# Altium footprint library Resistors.PcbLib: 51 footprints (part 1 of 4)
Each footprint in its own frame and in the unit in brackets; x right, y up, seen from the top. Pads: shape width x height; smd on the part's side, far side on the other; paste and mask are expansions set on the pad; w line width, h text height; cw(c..) or ccw(c..) is an arc to the next point about the centre after c.
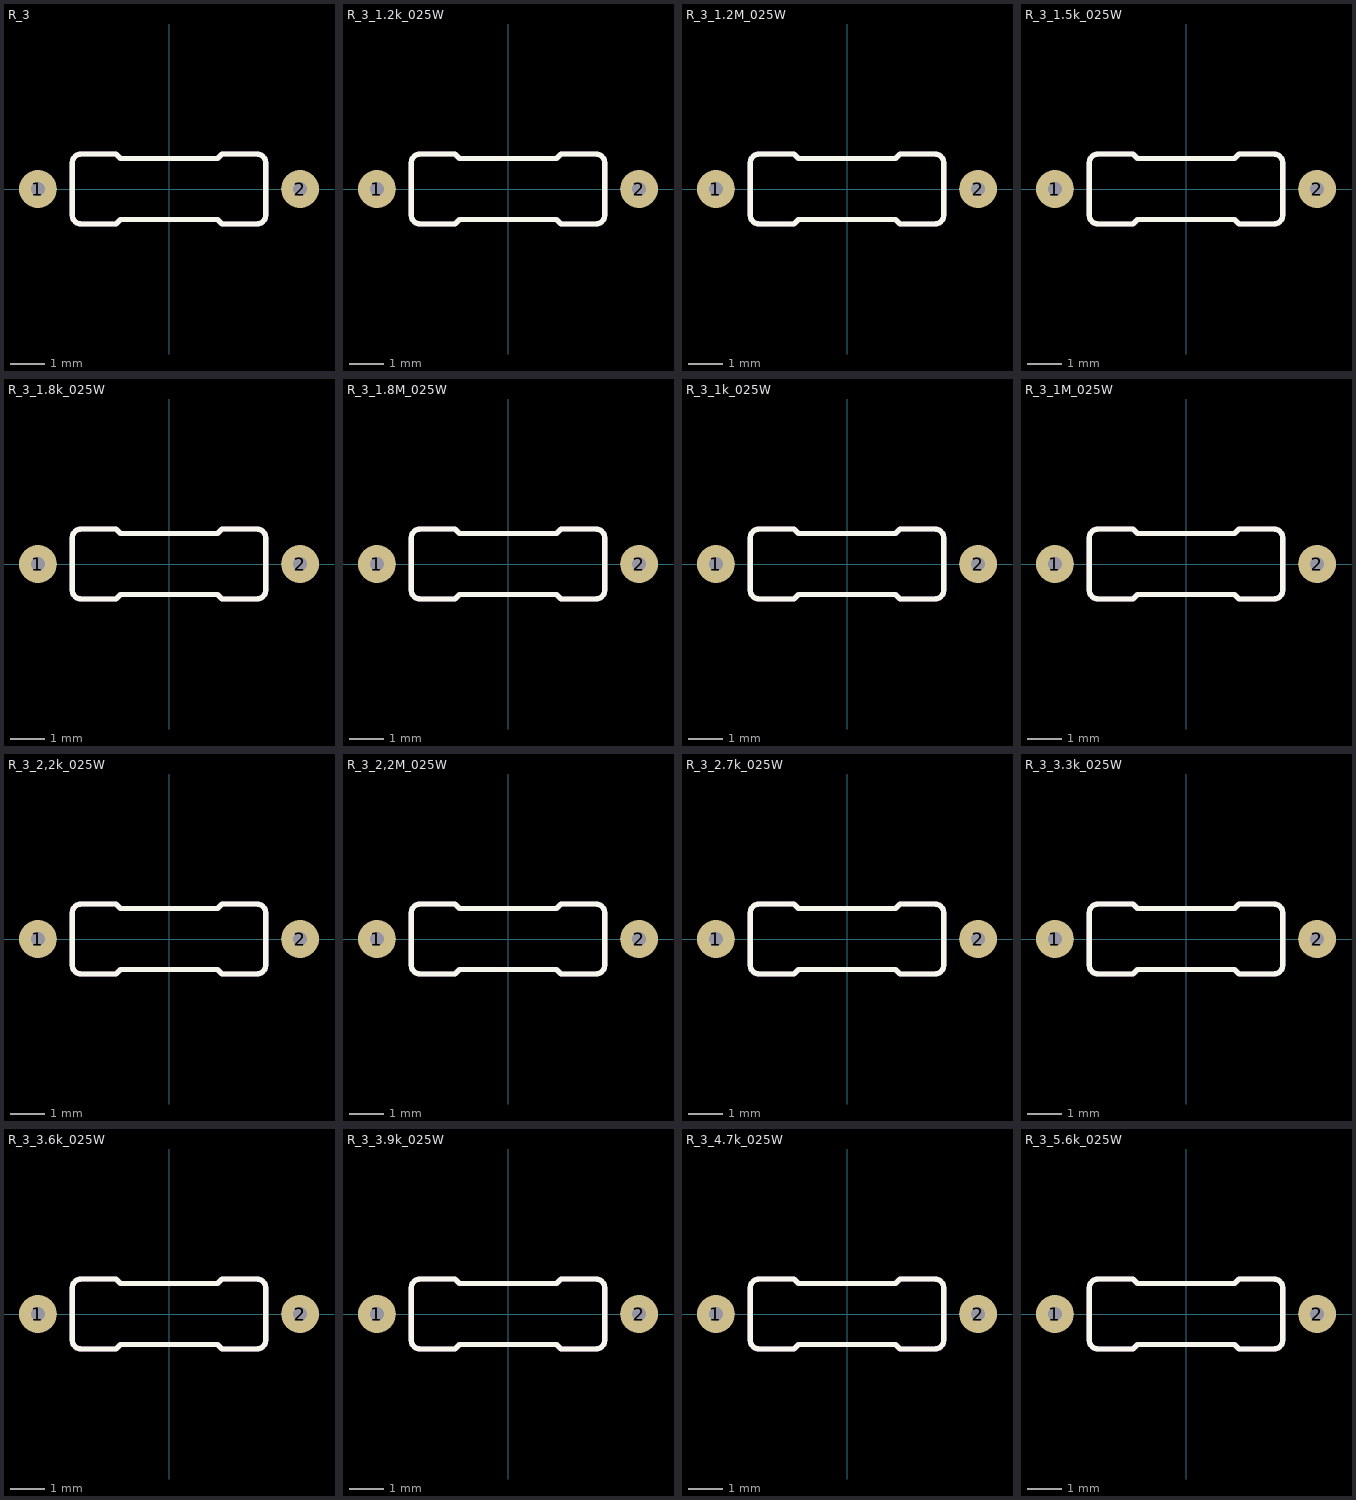
[diagram p0: the footprints below, top view; thin cyan lines are the x and y axes]

## R_3 [mil]
pads (2):
  round 43.31 hole 15.75: 1(-150,0) 2(150,0)
Top Overlay:
  lines w6: -110.63,-30 ccw(c-100.63,-30) -100.63,-40 -60.63,-40 -55.63,-35 55.63,-35 60.63,-40 100.63,-40 ccw(c100.63,-30) 110.63,-30 110.63,30 ccw(c100.63,30) 100.63,40 60.63,40 55.63,35 -55.63,35 -60.63,40 -100.63,40 ccw(c-100.63,30) -110.63,30 -110.63,-30
Mechanical 2:
  lines w6: -110.63,-30 ccw(c-100.63,-30) -100.63,-40 -60.63,-40 -55.63,-35 55.63,-35 60.63,-40 100.63,-40 ccw(c100.63,-30) 110.63,-30 110.63,30 ccw(c100.63,30) 100.63,40 60.63,40 55.63,35 -55.63,35 -60.63,40 -100.63,40 ccw(c-100.63,30) -110.63,30 -110.63,-30
3D body "R_3.STEP": height 78.24, standoff -60, extent -160,-38.23 160,38.25

## R_3_1.2k_025W [mil]
pads (2):
  round 43.31 hole 15.75: 1(-150,0) 2(150,0)
Top Overlay:
  lines w6: -110.63,-30 ccw(c-100.63,-30) -100.63,-40 -60.63,-40 -55.63,-35 55.63,-35 60.63,-40 100.63,-40 ccw(c100.63,-30) 110.63,-30 110.63,30 ccw(c100.63,30) 100.63,40 60.63,40 55.63,35 -55.63,35 -60.63,40 -100.63,40 ccw(c-100.63,30) -110.63,30 -110.63,-30
Mechanical 2:
  lines w6: -110.63,-30 ccw(c-100.63,-30) -100.63,-40 -60.63,-40 -55.63,-35 55.63,-35 60.63,-40 100.63,-40 ccw(c100.63,-30) 110.63,-30 110.63,30 ccw(c100.63,30) 100.63,40 60.63,40 55.63,35 -55.63,35 -60.63,40 -100.63,40 ccw(c-100.63,30) -110.63,30 -110.63,-30
3D body "R_3_1,2k_025W.step": height 83.24, standoff -55, extent -160,-38.23 160,38.25

## R_3_1.2M_025W [mil]
pads (2):
  round 43.31 hole 15.75: 1(-150,0) 2(150,0)
Top Overlay:
  lines w6: -110.63,-30 ccw(c-100.63,-30) -100.63,-40 -60.63,-40 -55.63,-35 55.63,-35 60.63,-40 100.63,-40 ccw(c100.63,-30) 110.63,-30 110.63,30 ccw(c100.63,30) 100.63,40 60.63,40 55.63,35 -55.63,35 -60.63,40 -100.63,40 ccw(c-100.63,30) -110.63,30 -110.63,-30
Mechanical 2:
  lines w6: -110.63,-30 ccw(c-100.63,-30) -100.63,-40 -60.63,-40 -55.63,-35 55.63,-35 60.63,-40 100.63,-40 ccw(c100.63,-30) 110.63,-30 110.63,30 ccw(c100.63,30) 100.63,40 60.63,40 55.63,35 -55.63,35 -60.63,40 -100.63,40 ccw(c-100.63,30) -110.63,30 -110.63,-30
3D body "R_3_1,2M_025W.step": height 83.24, standoff -55, extent -160,-38.23 160,38.25

## R_3_1.5k_025W [mil]
pads (2):
  round 43.31 hole 15.75: 1(-150,0) 2(150,0)
Top Overlay:
  lines w6: -110.63,-30 ccw(c-100.63,-30) -100.63,-40 -60.63,-40 -55.63,-35 55.63,-35 60.63,-40 100.63,-40 ccw(c100.63,-30) 110.63,-30 110.63,30 ccw(c100.63,30) 100.63,40 60.63,40 55.63,35 -55.63,35 -60.63,40 -100.63,40 ccw(c-100.63,30) -110.63,30 -110.63,-30
Mechanical 2:
  lines w6: -110.63,-30 ccw(c-100.63,-30) -100.63,-40 -60.63,-40 -55.63,-35 55.63,-35 60.63,-40 100.63,-40 ccw(c100.63,-30) 110.63,-30 110.63,30 ccw(c100.63,30) 100.63,40 60.63,40 55.63,35 -55.63,35 -60.63,40 -100.63,40 ccw(c-100.63,30) -110.63,30 -110.63,-30
3D body "R_3_1,5k_025W.step": height 83.24, standoff -55, extent -160,-38.23 160,38.25

## R_3_1.8k_025W [mil]
pads (2):
  round 43.31 hole 15.75: 1(-150,0) 2(150,0)
Top Overlay:
  lines w6: -110.63,-30 ccw(c-100.63,-30) -100.63,-40 -60.63,-40 -55.63,-35 55.63,-35 60.63,-40 100.63,-40 ccw(c100.63,-30) 110.63,-30 110.63,30 ccw(c100.63,30) 100.63,40 60.63,40 55.63,35 -55.63,35 -60.63,40 -100.63,40 ccw(c-100.63,30) -110.63,30 -110.63,-30
Mechanical 2:
  lines w6: -110.63,-30 ccw(c-100.63,-30) -100.63,-40 -60.63,-40 -55.63,-35 55.63,-35 60.63,-40 100.63,-40 ccw(c100.63,-30) 110.63,-30 110.63,30 ccw(c100.63,30) 100.63,40 60.63,40 55.63,35 -55.63,35 -60.63,40 -100.63,40 ccw(c-100.63,30) -110.63,30 -110.63,-30
3D body "R_3_1,8k_025W.step": height 83.24, standoff -55, extent -160,-38.23 160,38.25

## R_3_1.8M_025W [mil]
pads (2):
  round 43.31 hole 15.75: 1(-150,0) 2(150,0)
Top Overlay:
  lines w6: -110.63,-30 ccw(c-100.63,-30) -100.63,-40 -60.63,-40 -55.63,-35 55.63,-35 60.63,-40 100.63,-40 ccw(c100.63,-30) 110.63,-30 110.63,30 ccw(c100.63,30) 100.63,40 60.63,40 55.63,35 -55.63,35 -60.63,40 -100.63,40 ccw(c-100.63,30) -110.63,30 -110.63,-30
Mechanical 2:
  lines w6: -110.63,-30 ccw(c-100.63,-30) -100.63,-40 -60.63,-40 -55.63,-35 55.63,-35 60.63,-40 100.63,-40 ccw(c100.63,-30) 110.63,-30 110.63,30 ccw(c100.63,30) 100.63,40 60.63,40 55.63,35 -55.63,35 -60.63,40 -100.63,40 ccw(c-100.63,30) -110.63,30 -110.63,-30
3D body "R_3_1,8M_025W.step": height 83.24, standoff -55, extent -160,-38.23 160,38.25

## R_3_1k_025W [mil]
pads (2):
  round 43.31 hole 15.75: 1(-150,0) 2(150,0)
Top Overlay:
  lines w6: -110.63,-30 ccw(c-100.63,-30) -100.63,-40 -60.63,-40 -55.63,-35 55.63,-35 60.63,-40 100.63,-40 ccw(c100.63,-30) 110.63,-30 110.63,30 ccw(c100.63,30) 100.63,40 60.63,40 55.63,35 -55.63,35 -60.63,40 -100.63,40 ccw(c-100.63,30) -110.63,30 -110.63,-30
Mechanical 2:
  lines w6: -110.63,-30 ccw(c-100.63,-30) -100.63,-40 -60.63,-40 -55.63,-35 55.63,-35 60.63,-40 100.63,-40 ccw(c100.63,-30) 110.63,-30 110.63,30 ccw(c100.63,30) 100.63,40 60.63,40 55.63,35 -55.63,35 -60.63,40 -100.63,40 ccw(c-100.63,30) -110.63,30 -110.63,-30
3D body "R_3_1k_025W.step": height 83.24, standoff -55, extent -160,-38.23 160,38.25

## R_3_1M_025W [mil]
pads (2):
  round 43.31 hole 15.75: 1(-150,0) 2(150,0)
Top Overlay:
  lines w6: -110.63,-30 ccw(c-100.63,-30) -100.63,-40 -60.63,-40 -55.63,-35 55.63,-35 60.63,-40 100.63,-40 ccw(c100.63,-30) 110.63,-30 110.63,30 ccw(c100.63,30) 100.63,40 60.63,40 55.63,35 -55.63,35 -60.63,40 -100.63,40 ccw(c-100.63,30) -110.63,30 -110.63,-30
Mechanical 2:
  lines w6: -110.63,-30 ccw(c-100.63,-30) -100.63,-40 -60.63,-40 -55.63,-35 55.63,-35 60.63,-40 100.63,-40 ccw(c100.63,-30) 110.63,-30 110.63,30 ccw(c100.63,30) 100.63,40 60.63,40 55.63,35 -55.63,35 -60.63,40 -100.63,40 ccw(c-100.63,30) -110.63,30 -110.63,-30
3D body "R_3_1M_025W.step": height 83.24, standoff -55, extent -160,-38.23 160,38.25

## R_3_2,2k_025W [mil]
pads (2):
  round 43.31 hole 15.75: 1(-150,0) 2(150,0)
Top Overlay:
  lines w6: -110.63,-30 ccw(c-100.63,-30) -100.63,-40 -60.63,-40 -55.63,-35 55.63,-35 60.63,-40 100.63,-40 ccw(c100.63,-30) 110.63,-30 110.63,30 ccw(c100.63,30) 100.63,40 60.63,40 55.63,35 -55.63,35 -60.63,40 -100.63,40 ccw(c-100.63,30) -110.63,30 -110.63,-30
Mechanical 2:
  lines w6: -110.63,-30 ccw(c-100.63,-30) -100.63,-40 -60.63,-40 -55.63,-35 55.63,-35 60.63,-40 100.63,-40 ccw(c100.63,-30) 110.63,-30 110.63,30 ccw(c100.63,30) 100.63,40 60.63,40 55.63,35 -55.63,35 -60.63,40 -100.63,40 ccw(c-100.63,30) -110.63,30 -110.63,-30
3D body "R_3_2,2k_025W.step": height 83.24, standoff -55, extent -160,-38.23 160,38.25

## R_3_2,2M_025W [mil]
pads (2):
  round 43.31 hole 15.75: 1(-150,0) 2(150,0)
Top Overlay:
  lines w6: -110.63,-30 ccw(c-100.63,-30) -100.63,-40 -60.63,-40 -55.63,-35 55.63,-35 60.63,-40 100.63,-40 ccw(c100.63,-30) 110.63,-30 110.63,30 ccw(c100.63,30) 100.63,40 60.63,40 55.63,35 -55.63,35 -60.63,40 -100.63,40 ccw(c-100.63,30) -110.63,30 -110.63,-30
Mechanical 2:
  lines w6: -110.63,-30 ccw(c-100.63,-30) -100.63,-40 -60.63,-40 -55.63,-35 55.63,-35 60.63,-40 100.63,-40 ccw(c100.63,-30) 110.63,-30 110.63,30 ccw(c100.63,30) 100.63,40 60.63,40 55.63,35 -55.63,35 -60.63,40 -100.63,40 ccw(c-100.63,30) -110.63,30 -110.63,-30
3D body "R_3_2,2M_025W.step": height 83.24, standoff -55, extent -160,-38.23 160,38.25

## R_3_2.7k_025W [mil]
pads (2):
  round 43.31 hole 15.75: 1(-150,0) 2(150,0)
Top Overlay:
  lines w6: -110.63,-30 ccw(c-100.63,-30) -100.63,-40 -60.63,-40 -55.63,-35 55.63,-35 60.63,-40 100.63,-40 ccw(c100.63,-30) 110.63,-30 110.63,30 ccw(c100.63,30) 100.63,40 60.63,40 55.63,35 -55.63,35 -60.63,40 -100.63,40 ccw(c-100.63,30) -110.63,30 -110.63,-30
Mechanical 2:
  lines w6: -110.63,-30 ccw(c-100.63,-30) -100.63,-40 -60.63,-40 -55.63,-35 55.63,-35 60.63,-40 100.63,-40 ccw(c100.63,-30) 110.63,-30 110.63,30 ccw(c100.63,30) 100.63,40 60.63,40 55.63,35 -55.63,35 -60.63,40 -100.63,40 ccw(c-100.63,30) -110.63,30 -110.63,-30
3D body "R_3_2,7k_025W.step": height 83.24, standoff -55, extent -160,-38.23 160,38.25

## R_3_3.3k_025W [mil]
pads (2):
  round 43.31 hole 15.75: 1(-150,0) 2(150,0)
Top Overlay:
  lines w6: -110.63,-30 ccw(c-100.63,-30) -100.63,-40 -60.63,-40 -55.63,-35 55.63,-35 60.63,-40 100.63,-40 ccw(c100.63,-30) 110.63,-30 110.63,30 ccw(c100.63,30) 100.63,40 60.63,40 55.63,35 -55.63,35 -60.63,40 -100.63,40 ccw(c-100.63,30) -110.63,30 -110.63,-30
Mechanical 2:
  lines w6: -110.63,-30 ccw(c-100.63,-30) -100.63,-40 -60.63,-40 -55.63,-35 55.63,-35 60.63,-40 100.63,-40 ccw(c100.63,-30) 110.63,-30 110.63,30 ccw(c100.63,30) 100.63,40 60.63,40 55.63,35 -55.63,35 -60.63,40 -100.63,40 ccw(c-100.63,30) -110.63,30 -110.63,-30
3D body "R_3_3,3k_025W.step": height 83.24, standoff -55, extent -160,-38.23 160,38.25

## R_3_3.6k_025W [mil]
pads (2):
  round 43.31 hole 15.75: 1(-150,0) 2(150,0)
Top Overlay:
  lines w6: -110.63,-30 ccw(c-100.63,-30) -100.63,-40 -60.63,-40 -55.63,-35 55.63,-35 60.63,-40 100.63,-40 ccw(c100.63,-30) 110.63,-30 110.63,30 ccw(c100.63,30) 100.63,40 60.63,40 55.63,35 -55.63,35 -60.63,40 -100.63,40 ccw(c-100.63,30) -110.63,30 -110.63,-30
Mechanical 2:
  lines w6: -110.63,-30 ccw(c-100.63,-30) -100.63,-40 -60.63,-40 -55.63,-35 55.63,-35 60.63,-40 100.63,-40 ccw(c100.63,-30) 110.63,-30 110.63,30 ccw(c100.63,30) 100.63,40 60.63,40 55.63,35 -55.63,35 -60.63,40 -100.63,40 ccw(c-100.63,30) -110.63,30 -110.63,-30
3D body "R_3_3,6k_025W.step": height 83.24, standoff -55, extent -160,-38.23 160,38.25

## R_3_3.9k_025W [mil]
pads (2):
  round 43.31 hole 15.75: 1(-150,0) 2(150,0)
Top Overlay:
  lines w6: -110.63,-30 ccw(c-100.63,-30) -100.63,-40 -60.63,-40 -55.63,-35 55.63,-35 60.63,-40 100.63,-40 ccw(c100.63,-30) 110.63,-30 110.63,30 ccw(c100.63,30) 100.63,40 60.63,40 55.63,35 -55.63,35 -60.63,40 -100.63,40 ccw(c-100.63,30) -110.63,30 -110.63,-30
Mechanical 2:
  lines w6: -110.63,-30 ccw(c-100.63,-30) -100.63,-40 -60.63,-40 -55.63,-35 55.63,-35 60.63,-40 100.63,-40 ccw(c100.63,-30) 110.63,-30 110.63,30 ccw(c100.63,30) 100.63,40 60.63,40 55.63,35 -55.63,35 -60.63,40 -100.63,40 ccw(c-100.63,30) -110.63,30 -110.63,-30
3D body "R_3_3,9k_025W.step": height 83.24, standoff -55, extent -160,-38.23 160,38.25

## R_3_4.7k_025W [mil]
pads (2):
  round 43.31 hole 15.75: 1(-150,0) 2(150,0)
Top Overlay:
  lines w6: -110.63,-30 ccw(c-100.63,-30) -100.63,-40 -60.63,-40 -55.63,-35 55.63,-35 60.63,-40 100.63,-40 ccw(c100.63,-30) 110.63,-30 110.63,30 ccw(c100.63,30) 100.63,40 60.63,40 55.63,35 -55.63,35 -60.63,40 -100.63,40 ccw(c-100.63,30) -110.63,30 -110.63,-30
Mechanical 2:
  lines w6: -110.63,-30 ccw(c-100.63,-30) -100.63,-40 -60.63,-40 -55.63,-35 55.63,-35 60.63,-40 100.63,-40 ccw(c100.63,-30) 110.63,-30 110.63,30 ccw(c100.63,30) 100.63,40 60.63,40 55.63,35 -55.63,35 -60.63,40 -100.63,40 ccw(c-100.63,30) -110.63,30 -110.63,-30
3D body "R_3_4,7k_025W.step": height 83.24, standoff -55, extent -160,-38.23 160,38.25

## R_3_5.6k_025W [mil]
pads (2):
  round 43.31 hole 15.75: 1(-150,0) 2(150,0)
Top Overlay:
  lines w6: -110.63,-30 ccw(c-100.63,-30) -100.63,-40 -60.63,-40 -55.63,-35 55.63,-35 60.63,-40 100.63,-40 ccw(c100.63,-30) 110.63,-30 110.63,30 ccw(c100.63,30) 100.63,40 60.63,40 55.63,35 -55.63,35 -60.63,40 -100.63,40 ccw(c-100.63,30) -110.63,30 -110.63,-30
Mechanical 2:
  lines w6: -110.63,-30 ccw(c-100.63,-30) -100.63,-40 -60.63,-40 -55.63,-35 55.63,-35 60.63,-40 100.63,-40 ccw(c100.63,-30) 110.63,-30 110.63,30 ccw(c100.63,30) 100.63,40 60.63,40 55.63,35 -55.63,35 -60.63,40 -100.63,40 ccw(c-100.63,30) -110.63,30 -110.63,-30
3D body "R_3_5.6k_025W.step": height 83.24, standoff -55, extent -160,-38.23 160,38.25